# EAGLE library part MC14-G (library con-phoenix-381)
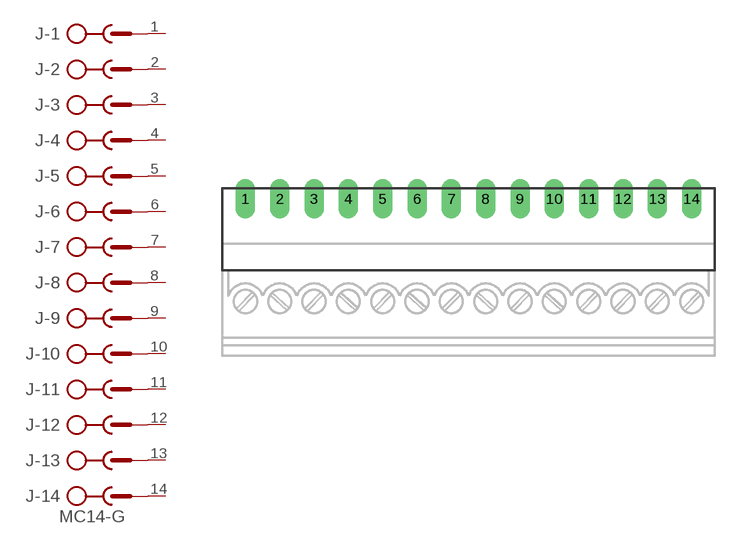
[diagram p42: symbol with the pads of MC14-G; footprint MC14-G]

Designator prefix J; gates -1=SK -2=SK -3=SK -4=SK -5=SK -6=SK -7=SK -8=SK -9=SK -10=SK -11=SK -12=SK -13=SK -14=SK+V

## MC14-G  [MC14-G]
1  -1:SK  pas
2  -2:SK  pas
3  -3:SK  pas
4  -4:SK  pas
5  -5:SK  pas
6  -6:SK  pas
7  -7:SK  pas
8  -8:SK  pas
9  -9:SK  pas
10  -10:SK  pas
11  -11:SK  pas
12  -12:SK  pas
13  -13:SK  pas
14  -14:SK  pas

## Footprint MC14-G (pad centres in mm)
drill 1.27 pad 2.184 long: 1 -24.765,0; 2 -20.955,0; 3 -17.145,0; 4 -13.335,0; 5 -9.525,0; 6 -5.715,0; 7 -1.905,0; 8 1.905,0; 9 5.715,0; 10 9.525,0; 11 13.335,0; 12 17.145,0; 13 20.955,0; 14 24.765,0